# Altium schematic symbol library SCH - POWER - SWITCHMODE - TI TPS562210ADDF.SchLib: 1 symbol
Pins are listed as number, name and electrical type; pins without a type are passive.

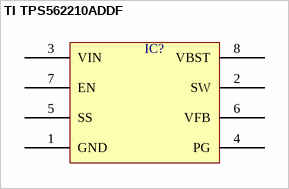
[diagram p0: symbol TI TPS562210ADDF]

## TI TPS562210ADDF
designator IC?  (value not drawn)
pins: 1 GND, 2 SW, 3 VIN, 4 PG, 5 SS, 6 VFB, 7 EN, 8 VBST